# EAGLE library part IP4221CZ6-S (library nxp)
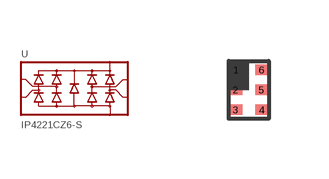
[diagram p6: symbol with the pads of DFN1410-6; footprint DFN1410-6]

Designator prefix U

## IP4221CZ6-S  [DFN1410-6]
1  1
2  2
3  3
4  4
5  5
6  6

## Footprint DFN1410-6 (pad centres in mm)
smd 0.325 x 0.27: 1 -0.325,0.5; 2 -0.325,0; 3 -0.325,-0.5; 4 0.325,-0.5; 5 0.325,0; 6 0.325,0.5